# EAGLE library part 1791_AT32UC3A4256HHB-C1UR (library KylePile)
ATMEL 32-bit AVR Microcontroller - VFBGA100
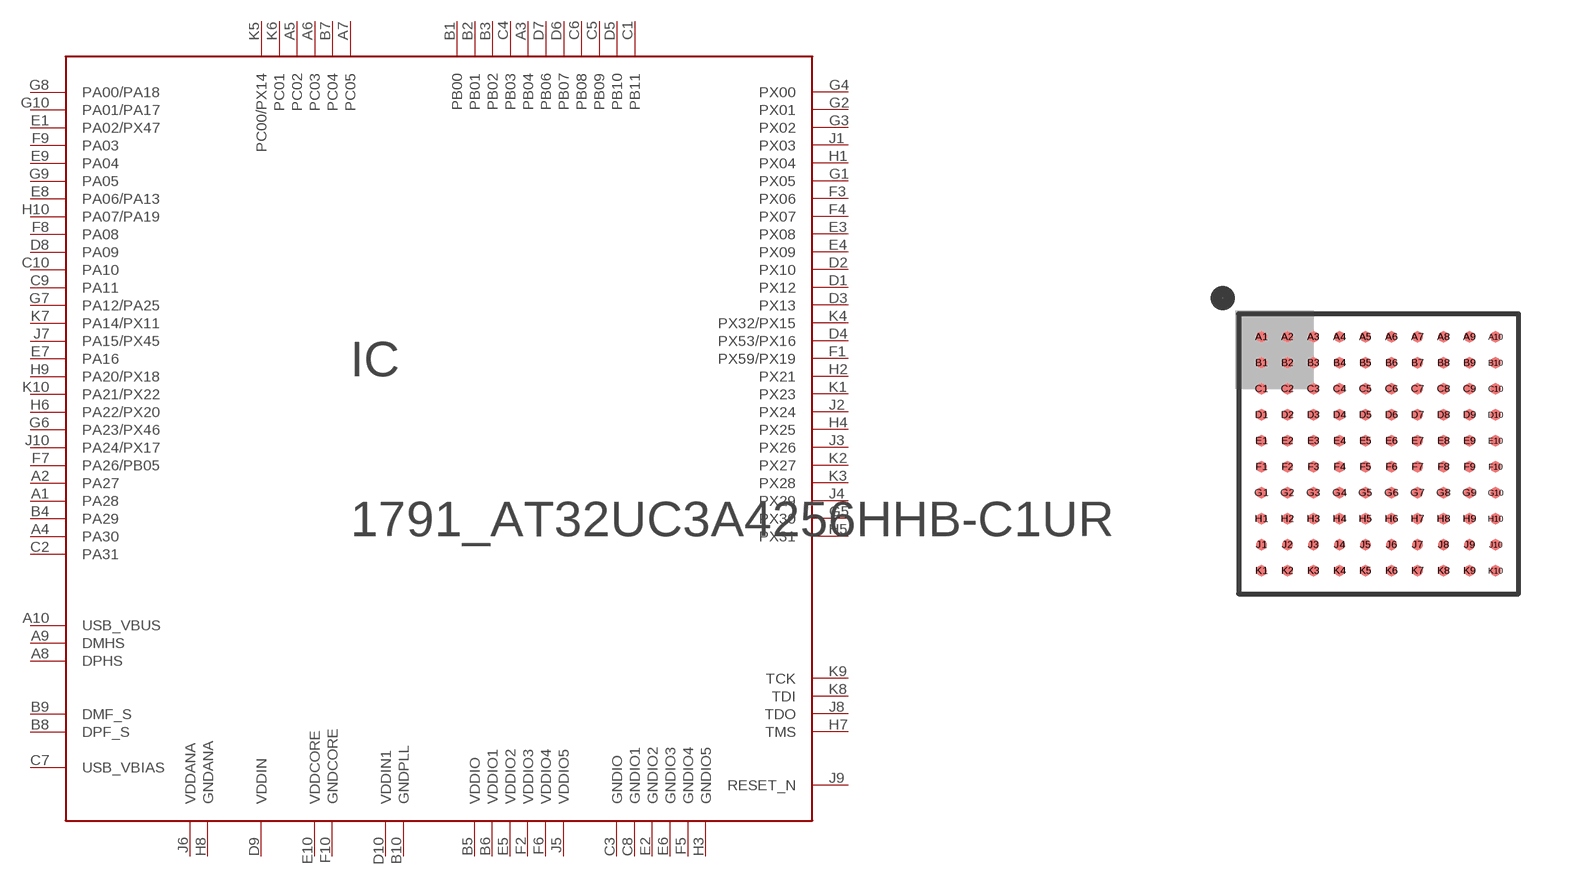
[diagram p21: symbol with the pads of VFBGA100; footprint VFBGA100]

Designator prefix IC

## 1791_AT32UC3A4256HHB-C1UR  [VFBGA100]
A1  PA28
A2  PA27
A3  PB04
A4  PA30
A5  PC02
A6  PC03
A7  PC05
A8  DPHS
A9  DMHS
A10  USB_VBUS
B1  PB00
B2  PB01
B3  PB02
B4  PA29
B5  VDDIO
B6  VDDIO1
B7  PC04
B8  DPF_S
B9  DMF_S
B10  GNDPLL
C1  PB11
C2  PA31
C3  GNDIO
C4  PB03
C5  PB09
C6  PB08
C7  USB_VBIAS
C8  GNDIO1
C9  PA11
C10  PA10
D1  PX12
D2  PX10
D3  PX13
D4  PX53/PX16
D5  PB10
D6  PB07
D7  PB06
D8  PA09
D9  VDDIN
D10  VDDIN1
E1  PA02/PX47
E2  GNDIO2
E3  PX08
E4  PX09
E5  VDDIO2
E6  GNDIO3
E7  PA16
E8  PA06/PA13
E9  PA04
E10  VDDCORE
F1  PX59/PX19
F2  VDDIO3
F3  PX06
F4  PX07
F5  GNDIO4
F6  VDDIO4
F7  PA26/PB05
F8  PA08
F9  PA03
F10  GNDCORE
G1  PX05
G2  PX01
G3  PX02
G4  PX00
G5  PX30
G6  PA23/PX46
G7  PA12/PA25
G8  PA00/PA18
G9  PA05
G10  PA01/PA17
H1  PX04
H2  PX21
H3  GNDIO5
H4  PX25
H5  PX31
H6  PA22/PX20
H7  TMS
H8  GNDANA
H9  PA20/PX18
H10  PA07/PA19
J1  PX03
J2  PX24
J3  PX26
J4  PX29
J5  VDDIO5
J6  VDDANA
J7  PA15/PX45
J8  TDO
J9  RESET_N
J10  PA24/PX17
K1  PX23
K2  PX27
K3  PX28
K4  PX32/PX15
K5  PC00/PX14
K6  PC01
K7  PA14/PX11
K8  TDI
K9  TCK
K10  PA21/PX22

## Footprint VFBGA100 (pad centres in mm)
smd 0.28 x 0.28: A1 -2.925,2.925; A2 -2.275,2.925; A3 -1.625,2.925; A4 -0.975,2.925; A5 -0.325,2.925; A6 0.325,2.925; A7 0.975,2.925; A8 1.625,2.925; A9 2.275,2.925; A10 2.925,2.925; B1 -2.925,2.275; B2 -2.275,2.275; B3 -1.625,2.275; B4 -0.975,2.275; B5 -0.325,2.275; B6 0.325,2.275; B7 0.975,2.275; B8 1.625,2.275; B9 2.275,2.275; B10 2.925,2.275; C1 -2.925,1.625; C2 -2.275,1.625; C3 -1.625,1.625; C4 -0.975,1.625; C5 -0.325,1.625; C6 0.325,1.625; C7 0.975,1.625; C8 1.625,1.625; C9 2.275,1.625; C10 2.925,1.625; D1 -2.925,0.975; D2 -2.275,0.975; D3 -1.625,0.975; D4 -0.975,0.975; D5 -0.325,0.975; D6 0.325,0.975; D7 0.975,0.975; D8 1.625,0.975; D9 2.275,0.975; D10 2.925,0.975; E1 -2.925,0.325; E2 -2.275,0.325; E3 -1.625,0.325; E4 -0.975,0.325; E5 -0.325,0.325; E6 0.325,0.325; E7 0.975,0.325; E8 1.625,0.325; E9 2.275,0.325; E10 2.925,0.325; F1 -2.925,-0.325; F2 -2.275,-0.325; F3 -1.625,-0.325; F4 -0.975,-0.325; F5 -0.325,-0.325; F6 0.325,-0.325; F7 0.975,-0.325; F8 1.625,-0.325; F9 2.275,-0.325; F10 2.925,-0.325; G1 -2.925,-0.975; G2 -2.275,-0.975; G3 -1.625,-0.975; G4 -0.975,-0.975; G5 -0.325,-0.975; G6 0.325,-0.975; G7 0.975,-0.975; G8 1.625,-0.975; G9 2.275,-0.975; G10 2.925,-0.975; H1 -2.925,-1.625; H2 -2.275,-1.625; H3 -1.625,-1.625; H4 -0.975,-1.625; H5 -0.325,-1.625; H6 0.325,-1.625; H7 0.975,-1.625; H8 1.625,-1.625; H9 2.275,-1.625; H10 2.925,-1.625; J1 -2.925,-2.275; J2 -2.275,-2.275; J3 -1.625,-2.275; J4 -0.975,-2.275; J5 -0.325,-2.275; J6 0.325,-2.275; J7 0.975,-2.275; J8 1.625,-2.275; J9 2.275,-2.275; J10 2.925,-2.275; K1 -2.925,-2.925; K2 -2.275,-2.925; K3 -1.625,-2.925; K4 -0.975,-2.925; K5 -0.325,-2.925; K6 0.325,-2.925; K7 0.975,-2.925; K8 1.625,-2.925; K9 2.275,-2.925; K10 2.925,-2.925